# Altium schematic symbol library Converter_DCDC.SchLib: 658 symbols (part 1 of 7)
Pins are listed as number, name and electrical type; pins without a type are passive.

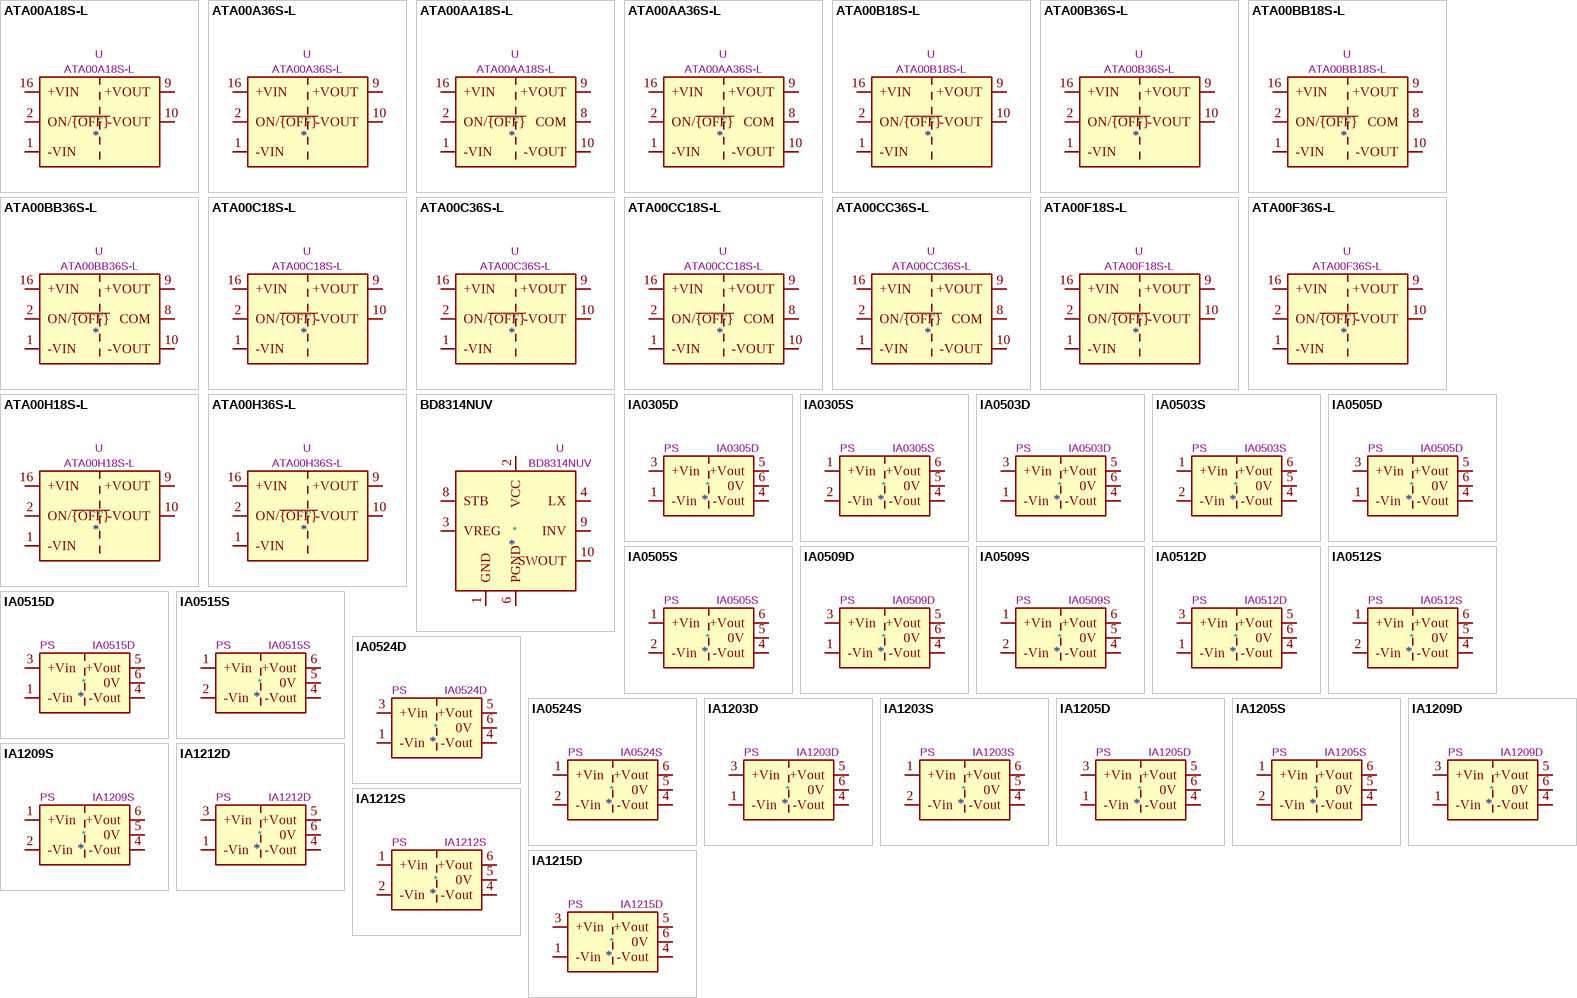
[diagram p0: symbols ATA00A18S-L to IA1215D]

## ATA00A18S-L
designator *  value ATA00A18S-L  Reference: U
ki_keywords: DC/DC converter single; ki_description: Artesyn 3W Isolated DC/DC Converter Module, 5V Output Voltage, 9-36V Input Voltage; ki_fp_filters: *Artesyn*ATA*SMD*; Footprint: Converter_DCDC:Converter_DCDC_Artesyn_ATA_SMD; Datasheet: https://www.artesyn.com/power/assets/ata_series_ds_01apr2015_79c25814fd.pdf
pins: 1 -VIN, 2 ON/~{{OFF}}, 7 NC hidden, 8 NC hidden, 9 +VOUT, 10 -VOUT, 16 +VIN

## ATA00A36S-L
designator *  value ATA00A36S-L  Reference: U
ki_keywords: DC/DC converter single; ki_description: Artesyn 3W Isolated DC/DC Converter Module, 5V Output Voltage, 18-75V Input Voltage; ki_fp_filters: *Artesyn*ATA*SMD*; Footprint: Converter_DCDC:Converter_DCDC_Artesyn_ATA_SMD; Datasheet: https://www.artesyn.com/power/assets/ata_series_ds_01apr2015_79c25814fd.pdf
pins: 1 -VIN, 2 ON/~{{OFF}}, 7 NC hidden, 8 NC hidden, 9 +VOUT, 10 -VOUT, 16 +VIN

## ATA00AA18S-L
designator *  value ATA00AA18S-L  Reference: U
ki_keywords: DC/DC converter dual; ki_description: Artesyn 3W Isolated DC/DC Converter Module, ±5V Output Voltage, 9-36V Input Voltage; ki_fp_filters: *Artesyn*ATA*SMD*; Footprint: Converter_DCDC:Converter_DCDC_Artesyn_ATA_SMD; Datasheet: https://www.artesyn.com/power/assets/ata_series_ds_01apr2015_79c25814fd.pdf
pins: 1 -VIN, 2 ON/~{{OFF}}, 7 NC hidden, 8 COM, 9 +VOUT, 10 -VOUT, 16 +VIN

## ATA00AA36S-L
designator *  value ATA00AA36S-L  Reference: U
ki_keywords: DC/DC converter dual; ki_description: Artesyn 3W Isolated DC/DC Converter Module, ±5V Output Voltage, 18-75V Input Voltage; ki_fp_filters: *Artesyn*ATA*SMD*; Footprint: Converter_DCDC:Converter_DCDC_Artesyn_ATA_SMD; Datasheet: https://www.artesyn.com/power/assets/ata_series_ds_01apr2015_79c25814fd.pdf
pins: 1 -VIN, 2 ON/~{{OFF}}, 7 NC hidden, 8 COM, 9 +VOUT, 10 -VOUT, 16 +VIN

## ATA00B18S-L
designator *  value ATA00B18S-L  Reference: U
ki_keywords: DC/DC converter single; ki_description: Artesyn 3W Isolated DC/DC Converter Module, 12V Output Voltage, 9-36V Input Voltage; ki_fp_filters: *Artesyn*ATA*SMD*; Footprint: Converter_DCDC:Converter_DCDC_Artesyn_ATA_SMD; Datasheet: https://www.artesyn.com/power/assets/ata_series_ds_01apr2015_79c25814fd.pdf
pins: 1 -VIN, 2 ON/~{{OFF}}, 7 NC hidden, 8 NC hidden, 9 +VOUT, 10 -VOUT, 16 +VIN

## ATA00B36S-L
designator *  value ATA00B36S-L  Reference: U
ki_keywords: DC/DC converter single; ki_description: Artesyn 3W Isolated DC/DC Converter Module, 12V Output Voltage, 18-75V Input Voltage; ki_fp_filters: *Artesyn*ATA*SMD*; Footprint: Converter_DCDC:Converter_DCDC_Artesyn_ATA_SMD; Datasheet: https://www.artesyn.com/power/assets/ata_series_ds_01apr2015_79c25814fd.pdf
pins: 1 -VIN, 2 ON/~{{OFF}}, 7 NC hidden, 8 NC hidden, 9 +VOUT, 10 -VOUT, 16 +VIN

## ATA00BB18S-L
designator *  value ATA00BB18S-L  Reference: U
ki_keywords: DC/DC converter dual; ki_description: Artesyn 3W Isolated DC/DC Converter Module, ±12V Output Voltage, 9-36V Input Voltage; ki_fp_filters: *Artesyn*ATA*SMD*; Footprint: Converter_DCDC:Converter_DCDC_Artesyn_ATA_SMD; Datasheet: https://www.artesyn.com/power/assets/ata_series_ds_01apr2015_79c25814fd.pdf
pins: 1 -VIN, 2 ON/~{{OFF}}, 7 NC hidden, 8 COM, 9 +VOUT, 10 -VOUT, 16 +VIN

## ATA00BB36S-L
designator *  value ATA00BB36S-L  Reference: U
ki_keywords: DC/DC converter dual; ki_description: Artesyn 3W Isolated DC/DC Converter Module, ±12V Output Voltage, 18-75V Input Voltage; ki_fp_filters: *Artesyn*ATA*SMD*; Footprint: Converter_DCDC:Converter_DCDC_Artesyn_ATA_SMD; Datasheet: https://www.artesyn.com/power/assets/ata_series_ds_01apr2015_79c25814fd.pdf
pins: 1 -VIN, 2 ON/~{{OFF}}, 7 NC hidden, 8 COM, 9 +VOUT, 10 -VOUT, 16 +VIN

## ATA00C18S-L
designator *  value ATA00C18S-L  Reference: U
ki_keywords: DC/DC converter single; ki_description: Artesyn 3W Isolated DC/DC Converter Module, 15V Output Voltage, 9-36V Input Voltage; ki_fp_filters: *Artesyn*ATA*SMD*; Footprint: Converter_DCDC:Converter_DCDC_Artesyn_ATA_SMD; Datasheet: https://www.artesyn.com/power/assets/ata_series_ds_01apr2015_79c25814fd.pdf
pins: 1 -VIN, 2 ON/~{{OFF}}, 7 NC hidden, 8 NC hidden, 9 +VOUT, 10 -VOUT, 16 +VIN

## ATA00C36S-L
designator *  value ATA00C36S-L  Reference: U
ki_keywords: DC/DC converter single; ki_description: Artesyn 3W Isolated DC/DC Converter Module, 15V Output Voltage, 18-75V Input Voltage; ki_fp_filters: *Artesyn*ATA*SMD*; Footprint: Converter_DCDC:Converter_DCDC_Artesyn_ATA_SMD; Datasheet: https://www.artesyn.com/power/assets/ata_series_ds_01apr2015_79c25814fd.pdf
pins: 1 -VIN, 2 ON/~{{OFF}}, 7 NC hidden, 8 NC hidden, 9 +VOUT, 10 -VOUT, 16 +VIN

## ATA00CC18S-L
designator *  value ATA00CC18S-L  Reference: U
ki_keywords: DC/DC converter dual; ki_description: Artesyn 3W Isolated DC/DC Converter Module, ±15V Output Voltage, 9-36V Input Voltage; ki_fp_filters: *Artesyn*ATA*SMD*; Footprint: Converter_DCDC:Converter_DCDC_Artesyn_ATA_SMD; Datasheet: https://www.artesyn.com/power/assets/ata_series_ds_01apr2015_79c25814fd.pdf
pins: 1 -VIN, 2 ON/~{{OFF}}, 7 NC hidden, 8 COM, 9 +VOUT, 10 -VOUT, 16 +VIN

## ATA00CC36S-L
designator *  value ATA00CC36S-L  Reference: U
ki_keywords: DC/DC converter dual; ki_description: Artesyn 3W Isolated DC/DC Converter Module, ±15V Output Voltage, 18-75V Input Voltage; ki_fp_filters: *Artesyn*ATA*SMD*; Footprint: Converter_DCDC:Converter_DCDC_Artesyn_ATA_SMD; Datasheet: https://www.artesyn.com/power/assets/ata_series_ds_01apr2015_79c25814fd.pdf
pins: 1 -VIN, 2 ON/~{{OFF}}, 7 NC hidden, 8 COM, 9 +VOUT, 10 -VOUT, 16 +VIN

## ATA00F18S-L
designator *  value ATA00F18S-L  Reference: U
ki_keywords: DC/DC converter single; ki_description: Artesyn 2W Isolated DC/DC Converter Module, 3.3V Output Voltage, 9-36V Input Voltage; ki_fp_filters: *Artesyn*ATA*SMD*; Footprint: Converter_DCDC:Converter_DCDC_Artesyn_ATA_SMD; Datasheet: https://www.artesyn.com/power/assets/ata_series_ds_01apr2015_79c25814fd.pdf
pins: 1 -VIN, 2 ON/~{{OFF}}, 7 NC hidden, 8 NC hidden, 9 +VOUT, 10 -VOUT, 16 +VIN

## ATA00F36S-L
designator *  value ATA00F36S-L  Reference: U
ki_keywords: DC/DC converter single; ki_description: Artesyn 2W Isolated DC/DC Converter Module, 3.3V Output Voltage, 18-75V Input Voltage; ki_fp_filters: *Artesyn*ATA*SMD*; Footprint: Converter_DCDC:Converter_DCDC_Artesyn_ATA_SMD; Datasheet: https://www.artesyn.com/power/assets/ata_series_ds_01apr2015_79c25814fd.pdf
pins: 1 -VIN, 2 ON/~{{OFF}}, 7 NC hidden, 8 NC hidden, 9 +VOUT, 10 -VOUT, 16 +VIN

## ATA00H18S-L
designator *  value ATA00H18S-L  Reference: U
ki_keywords: DC/DC converter single; ki_description: Artesyn 3W Isolated DC/DC Converter Module, 24V Output Voltage, 9-36V Input Voltage; ki_fp_filters: *Artesyn*ATA*SMD*; Footprint: Converter_DCDC:Converter_DCDC_Artesyn_ATA_SMD; Datasheet: https://www.artesyn.com/power/assets/ata_series_ds_01apr2015_79c25814fd.pdf
pins: 1 -VIN, 2 ON/~{{OFF}}, 7 NC hidden, 8 NC hidden, 9 +VOUT, 10 -VOUT, 16 +VIN

## ATA00H36S-L
designator *  value ATA00H36S-L  Reference: U
ki_keywords: DC/DC converter single; ki_description: Artesyn 3W Isolated DC/DC Converter Module, 24V Output Voltage, 18-75V Input Voltage; ki_fp_filters: *Artesyn*ATA*SMD*; Footprint: Converter_DCDC:Converter_DCDC_Artesyn_ATA_SMD; Datasheet: https://www.artesyn.com/power/assets/ata_series_ds_01apr2015_79c25814fd.pdf
pins: 1 -VIN, 2 ON/~{{OFF}}, 7 NC hidden, 8 NC hidden, 9 +VOUT, 10 -VOUT, 16 +VIN

## BD8314NUV
designator *  value BD8314NUV  Reference: U
ki_keywords: DCDC converter; ki_description: 3.0V to 12V, Integrated 2.5A MOSFET 1ch Boost Converter, VSON-10; ki_fp_filters: VSON*1EP*3x3mm*P0.5mm*; Footprint: Package_SON:VSON-10-1EP_3x3mm_P0.5mm_EP1.2x2mm; Datasheet: http://rohmfs.rohm.com/en/products/databook/datasheet/ic/power/switching_regulator/bd8314nuv-e.pdf
pins: 1 GND, 2 VCC, 3 VREG, 4 LX, 5 LX hidden, 6 PGND, 7 PGND hidden, 8 STB, 9 INV, 10 SWOUT, 11 PGND hidden

## IA0305D
designator *  value IA0305D  Reference: PS
ki_keywords: XP_POWER DC/DC isolated Converter module; ki_description: XP Power 1W, 1000 VDC Isolated DC/DC Converter Module, Dual Output Voltage ±5V, ±100mA, 3.3V Input Voltage, DIP; ki_fp_filters: *XP?POWER?IAxxxxD*; Footprint: Converter_DCDC:Converter_DCDC_XP_POWER-IAxxxxD_THT; Datasheet: https://www.xppower.com/pdfs/SF_IA.pdf
pins: 1 -Vin, 2 NC hidden, 3 +Vin, 4 -Vout, 5 +Vout, 6 0V

## IA0305S
designator *  value IA0305S  Reference: PS
ki_keywords: XP_POWER DC/DC isolated Converter module; ki_description: XP Power 1W, 1000 VDC Isolated DC/DC Converter Module, Dual Output Voltage ±5V, ±100mA, 3.3V Input Voltage, SIP; ki_fp_filters: *XP?POWER?IAxxxxS*; Footprint: Converter_DCDC:Converter_DCDC_XP_POWER-IAxxxxS_THT; Datasheet: https://www.xppower.com/pdfs/SF_IA.pdf
pins: 1 +Vin, 2 -Vin, 4 -Vout, 5 0V, 6 +Vout

## IA0503D
designator *  value IA0503D  Reference: PS
ki_keywords: XP_POWER DC/DC isolated Converter module; ki_description: XP Power 1W, 1000 VDC Isolated DC/DC Converter Module, Dual Output Voltage ±3.3V, ±151mA, 5V Input Voltage, DIP; ki_fp_filters: *XP?POWER?IAxxxxD*; Footprint: Converter_DCDC:Converter_DCDC_XP_POWER-IAxxxxD_THT; Datasheet: https://www.xppower.com/pdfs/SF_IA.pdf
pins: 1 -Vin, 2 NC hidden, 3 +Vin, 4 -Vout, 5 +Vout, 6 0V

## IA0503S
designator *  value IA0503S  Reference: PS
ki_keywords: XP_POWER DC/DC isolated Converter module; ki_description: XP Power 1W, 1000 VDC Isolated DC/DC Converter Module, Dual Output Voltage ±3.3V, ±151mA, 5V Input Voltage, SIP; ki_fp_filters: *XP?POWER?IAxxxxS*; Footprint: Converter_DCDC:Converter_DCDC_XP_POWER-IAxxxxS_THT; Datasheet: https://www.xppower.com/pdfs/SF_IA.pdf
pins: 1 +Vin, 2 -Vin, 4 -Vout, 5 0V, 6 +Vout

## IA0505D
designator *  value IA0505D  Reference: PS
ki_keywords: XP_POWER DC/DC isolated Converter module; ki_description: XP Power 1W, 1000 VDC Isolated DC/DC Converter Module, Dual Output Voltage ±5V, ±100mA, 5V Input Voltage, DIP; ki_fp_filters: *XP?POWER?IAxxxxD*; Footprint: Converter_DCDC:Converter_DCDC_XP_POWER-IAxxxxD_THT; Datasheet: https://www.xppower.com/pdfs/SF_IA.pdf
pins: 1 -Vin, 2 NC hidden, 3 +Vin, 4 -Vout, 5 +Vout, 6 0V

## IA0505S
designator *  value IA0505S  Reference: PS
ki_keywords: XP_POWER DC/DC isolated Converter module; ki_description: XP Power 1W, 1000 VDC Isolated DC/DC Converter Module, Dual Output Voltage ±5V, ±100mA, 5V Input Voltage, SIP; ki_fp_filters: *XP?POWER?IAxxxxS*; Footprint: Converter_DCDC:Converter_DCDC_XP_POWER-IAxxxxS_THT; Datasheet: https://www.xppower.com/pdfs/SF_IA.pdf
pins: 1 +Vin, 2 -Vin, 4 -Vout, 5 0V, 6 +Vout

## IA0509D
designator *  value IA0509D  Reference: PS
ki_keywords: XP_POWER DC/DC isolated Converter module; ki_description: XP Power 1W, 1000 VDC Isolated DC/DC Converter Module, Dual Output Voltage ±9V, ±55mA, 5V Input Voltage, DIP; ki_fp_filters: *XP?POWER?IAxxxxD*; Footprint: Converter_DCDC:Converter_DCDC_XP_POWER-IAxxxxD_THT; Datasheet: https://www.xppower.com/pdfs/SF_IA.pdf
pins: 1 -Vin, 2 NC hidden, 3 +Vin, 4 -Vout, 5 +Vout, 6 0V

## IA0509S
designator *  value IA0509S  Reference: PS
ki_keywords: XP_POWER DC/DC isolated Converter module; ki_description: XP Power 1W, 1000 VDC Isolated DC/DC Converter Module, Dual Output Voltage ±9V, ±55mA, 5V Input Voltage, SIP; ki_fp_filters: *XP?POWER?IAxxxxS*; Footprint: Converter_DCDC:Converter_DCDC_XP_POWER-IAxxxxS_THT; Datasheet: https://www.xppower.com/pdfs/SF_IA.pdf
pins: 1 +Vin, 2 -Vin, 4 -Vout, 5 0V, 6 +Vout

## IA0512D
designator *  value IA0512D  Reference: PS
ki_keywords: XP_POWER DC/DC isolated Converter module; ki_description: XP Power 1W, 1000 VDC Isolated DC/DC Converter Module, Dual Output Voltage ±12V, ±42mA, 5V Input Voltage, DIP; ki_fp_filters: *XP?POWER?IAxxxxD*; Footprint: Converter_DCDC:Converter_DCDC_XP_POWER-IAxxxxD_THT; Datasheet: https://www.xppower.com/pdfs/SF_IA.pdf
pins: 1 -Vin, 2 NC hidden, 3 +Vin, 4 -Vout, 5 +Vout, 6 0V

## IA0512S
designator *  value IA0512S  Reference: PS
ki_keywords: XP_POWER DC/DC isolated Converter module; ki_description: XP Power 1W, 1000 VDC Isolated DC/DC Converter Module, Dual Output Voltage ±12V, ±42mA, 5V Input Voltage, SIP; ki_fp_filters: *XP?POWER?IAxxxxS*; Footprint: Converter_DCDC:Converter_DCDC_XP_POWER-IAxxxxS_THT; Datasheet: https://www.xppower.com/pdfs/SF_IA.pdf
pins: 1 +Vin, 2 -Vin, 4 -Vout, 5 0V, 6 +Vout

## IA0515D
designator *  value IA0515D  Reference: PS
ki_keywords: XP_POWER DC/DC isolated Converter module; ki_description: XP Power 1W, 1000 VDC Isolated DC/DC Converter Module, Dual Output Voltage ±15V, ±33mA, 5V Input Voltage, DIP; ki_fp_filters: *XP?POWER?IAxxxxD*; Footprint: Converter_DCDC:Converter_DCDC_XP_POWER-IAxxxxD_THT; Datasheet: https://www.xppower.com/pdfs/SF_IA.pdf
pins: 1 -Vin, 2 NC hidden, 3 +Vin, 4 -Vout, 5 +Vout, 6 0V

## IA0515S
designator *  value IA0515S  Reference: PS
ki_keywords: XP_POWER DC/DC isolated Converter module; ki_description: XP Power 1W, 1000 VDC Isolated DC/DC Converter Module, Dual Output Voltage ±15V, ±33mA, 5V Input Voltage, SIP; ki_fp_filters: *XP?POWER?IAxxxxS*; Footprint: Converter_DCDC:Converter_DCDC_XP_POWER-IAxxxxS_THT; Datasheet: https://www.xppower.com/pdfs/SF_IA.pdf
pins: 1 +Vin, 2 -Vin, 4 -Vout, 5 0V, 6 +Vout

## IA0524D
designator *  value IA0524D  Reference: PS
ki_keywords: XP_POWER DC/DC isolated Converter module; ki_description: XP Power 1W, 1000 VDC Isolated DC/DC Converter Module, Dual Output Voltage ±24V, ±21mA, 5V Input Voltage, DIP; ki_fp_filters: *XP?POWER?IAxxxxD*; Footprint: Converter_DCDC:Converter_DCDC_XP_POWER-IAxxxxD_THT; Datasheet: https://www.xppower.com/pdfs/SF_IA.pdf
pins: 1 -Vin, 2 NC hidden, 3 +Vin, 4 -Vout, 5 +Vout, 6 0V

## IA0524S
designator *  value IA0524S  Reference: PS
ki_keywords: XP_POWER DC/DC isolated Converter module; ki_description: XP Power 1W, 1000 VDC Isolated DC/DC Converter Module, Dual Output Voltage ±24V, ±21mA, 5V Input Voltage, SIP; ki_fp_filters: *XP?POWER?IAxxxxS*; Footprint: Converter_DCDC:Converter_DCDC_XP_POWER-IAxxxxS_THT; Datasheet: https://www.xppower.com/pdfs/SF_IA.pdf
pins: 1 +Vin, 2 -Vin, 4 -Vout, 5 0V, 6 +Vout

## IA1203D
designator *  value IA1203D  Reference: PS
ki_keywords: XP_POWER DC/DC isolated Converter module; ki_description: XP Power 1W, 1000 VDC Isolated DC/DC Converter Module, Dual Output Voltage ±3.3V, ±151mA, 12V Input Voltage, DIP; ki_fp_filters: *XP?POWER?IAxxxxD*; Footprint: Converter_DCDC:Converter_DCDC_XP_POWER-IAxxxxD_THT; Datasheet: https://www.xppower.com/pdfs/SF_IA.pdf
pins: 1 -Vin, 2 NC hidden, 3 +Vin, 4 -Vout, 5 +Vout, 6 0V

## IA1203S
designator *  value IA1203S  Reference: PS
ki_keywords: XP_POWER DC/DC isolated Converter module; ki_description: XP Power 1W, 1000 VDC Isolated DC/DC Converter Module, Dual Output Voltage ±3.3V, ±151mA, 12V Input Voltage, SIP; ki_fp_filters: *XP?POWER?IAxxxxS*; Footprint: Converter_DCDC:Converter_DCDC_XP_POWER-IAxxxxS_THT; Datasheet: https://www.xppower.com/pdfs/SF_IA.pdf
pins: 1 +Vin, 2 -Vin, 4 -Vout, 5 0V, 6 +Vout

## IA1205D
designator *  value IA1205D  Reference: PS
ki_keywords: XP_POWER DC/DC isolated Converter module; ki_description: XP Power 1W, 1000 VDC Isolated DC/DC Converter Module, Dual Output Voltage ±5V, ±100mA, 12V Input Voltage, DIP; ki_fp_filters: *XP?POWER?IAxxxxD*; Footprint: Converter_DCDC:Converter_DCDC_XP_POWER-IAxxxxD_THT; Datasheet: https://www.xppower.com/pdfs/SF_IA.pdf
pins: 1 -Vin, 2 NC hidden, 3 +Vin, 4 -Vout, 5 +Vout, 6 0V

## IA1205S
designator *  value IA1205S  Reference: PS
ki_keywords: XP_POWER DC/DC isolated Converter module; ki_description: XP Power 1W, 1000 VDC Isolated DC/DC Converter Module, Dual Output Voltage ±5V, ±100mA, 12V Input Voltage, SIP; ki_fp_filters: *XP?POWER?IAxxxxS*; Footprint: Converter_DCDC:Converter_DCDC_XP_POWER-IAxxxxS_THT; Datasheet: https://www.xppower.com/pdfs/SF_IA.pdf
pins: 1 +Vin, 2 -Vin, 4 -Vout, 5 0V, 6 +Vout

## IA1209D
designator *  value IA1209D  Reference: PS
ki_keywords: XP_POWER DC/DC isolated Converter module; ki_description: XP Power 1W, 1000 VDC Isolated DC/DC Converter Module, Dual Output Voltage ±9V, ±55mA, 12V Input Voltage, DIP; ki_fp_filters: *XP?POWER?IAxxxxD*; Footprint: Converter_DCDC:Converter_DCDC_XP_POWER-IAxxxxD_THT; Datasheet: https://www.xppower.com/pdfs/SF_IA.pdf
pins: 1 -Vin, 2 NC hidden, 3 +Vin, 4 -Vout, 5 +Vout, 6 0V

## IA1209S
designator *  value IA1209S  Reference: PS
ki_keywords: XP_POWER DC/DC isolated Converter module; ki_description: XP Power 1W, 1000 VDC Isolated DC/DC Converter Module, Dual Output Voltage ±9V, ±55mA, 12V Input Voltage, SIP; ki_fp_filters: *XP?POWER?IAxxxxS*; Footprint: Converter_DCDC:Converter_DCDC_XP_POWER-IAxxxxS_THT; Datasheet: https://www.xppower.com/pdfs/SF_IA.pdf
pins: 1 +Vin, 2 -Vin, 4 -Vout, 5 0V, 6 +Vout

## IA1212D
designator *  value IA1212D  Reference: PS
ki_keywords: XP_POWER DC/DC isolated Converter module; ki_description: XP Power 1W, 1000 VDC Isolated DC/DC Converter Module, Dual Output Voltage ±12V, ±42mA, 12V Input Voltage, DIP; ki_fp_filters: *XP?POWER?IAxxxxD*; Footprint: Converter_DCDC:Converter_DCDC_XP_POWER-IAxxxxD_THT; Datasheet: https://www.xppower.com/pdfs/SF_IA.pdf
pins: 1 -Vin, 2 NC hidden, 3 +Vin, 4 -Vout, 5 +Vout, 6 0V

## IA1212S
designator *  value IA1212S  Reference: PS
ki_keywords: XP_POWER DC/DC isolated Converter module; ki_description: XP Power 1W, 1000 VDC Isolated DC/DC Converter Module, Dual Output Voltage ±12V, ±42mA, 12V Input Voltage, SIP; ki_fp_filters: *XP?POWER?IAxxxxS*; Footprint: Converter_DCDC:Converter_DCDC_XP_POWER-IAxxxxS_THT; Datasheet: https://www.xppower.com/pdfs/SF_IA.pdf
pins: 1 +Vin, 2 -Vin, 4 -Vout, 5 0V, 6 +Vout

## IA1215D
designator *  value IA1215D  Reference: PS
ki_keywords: XP_POWER DC/DC isolated Converter module; ki_description: XP Power 1W, 1000 VDC Isolated DC/DC Converter Module, Dual Output Voltage ±15V, ±33mA, 12V Input Voltage, DIP; ki_fp_filters: *XP?POWER?IAxxxxD*; Footprint: Converter_DCDC:Converter_DCDC_XP_POWER-IAxxxxD_THT; Datasheet: https://www.xppower.com/pdfs/SF_IA.pdf
pins: 1 -Vin, 2 NC hidden, 3 +Vin, 4 -Vout, 5 +Vout, 6 0V

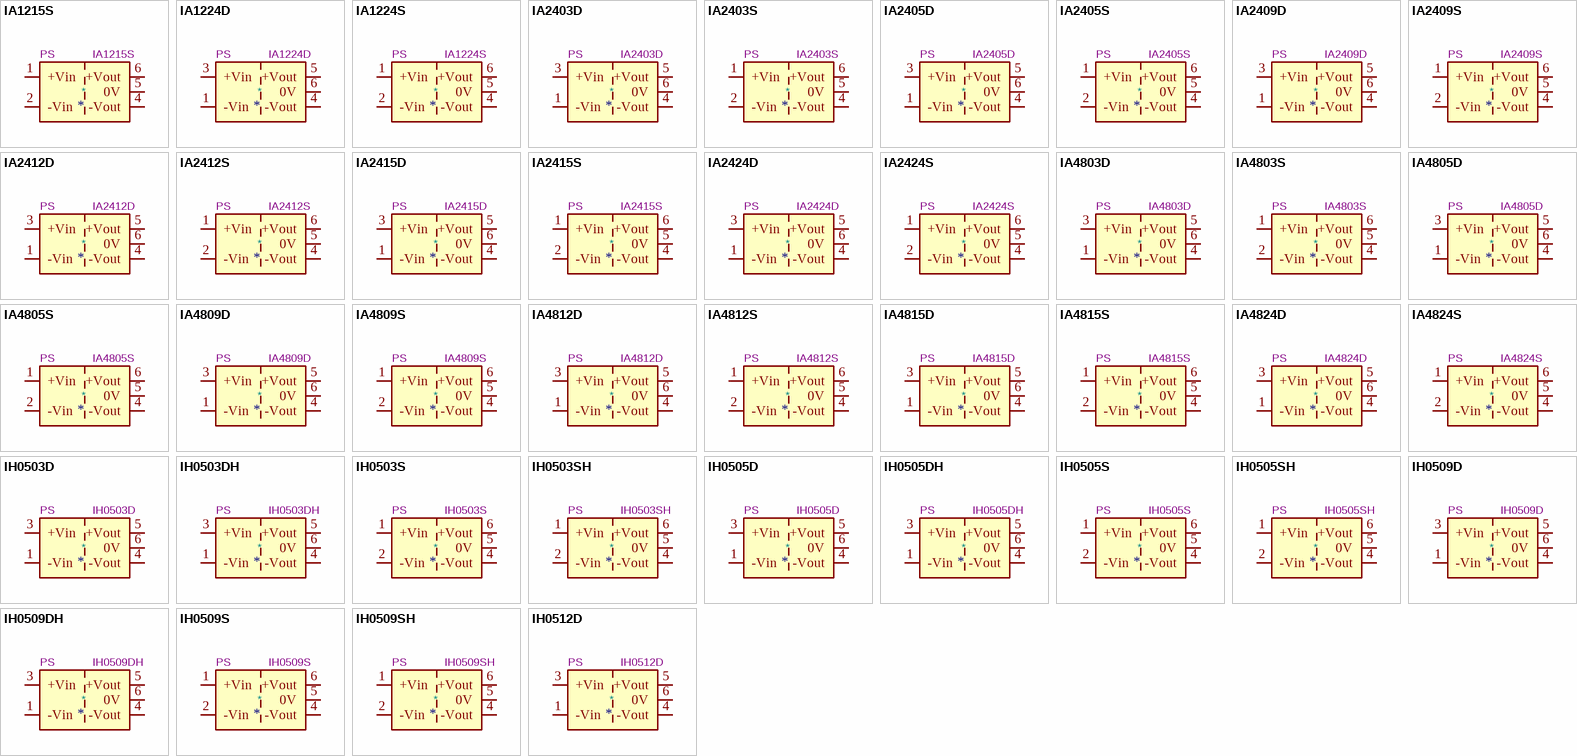
[diagram p1: symbols IA1215S to IH0512D]

## IA1215S
designator *  value IA1215S  Reference: PS
ki_keywords: XP_POWER DC/DC isolated Converter module; ki_description: XP Power 1W, 1000 VDC Isolated DC/DC Converter Module, Dual Output Voltage ±15V, ±33mA, 12V Input Voltage, SIP; ki_fp_filters: *XP?POWER?IAxxxxS*; Footprint: Converter_DCDC:Converter_DCDC_XP_POWER-IAxxxxS_THT; Datasheet: https://www.xppower.com/pdfs/SF_IA.pdf
pins: 1 +Vin, 2 -Vin, 4 -Vout, 5 0V, 6 +Vout

## IA1224D
designator *  value IA1224D  Reference: PS
ki_keywords: XP_POWER DC/DC isolated Converter module; ki_description: XP Power 1W, 1000 VDC Isolated DC/DC Converter Module, Dual Output Voltage ±24V, ±21mA, 12V Input Voltage, DIP; ki_fp_filters: *XP?POWER?IAxxxxD*; Footprint: Converter_DCDC:Converter_DCDC_XP_POWER-IAxxxxD_THT; Datasheet: https://www.xppower.com/pdfs/SF_IA.pdf
pins: 1 -Vin, 2 NC hidden, 3 +Vin, 4 -Vout, 5 +Vout, 6 0V

## IA1224S
designator *  value IA1224S  Reference: PS
ki_keywords: XP_POWER DC/DC isolated Converter module; ki_description: XP Power 1W, 1000 VDC Isolated DC/DC Converter Module, Dual Output Voltage ±24V, ±21mA, 12V Input Voltage, SIP; ki_fp_filters: *XP?POWER?IAxxxxS*; Footprint: Converter_DCDC:Converter_DCDC_XP_POWER-IAxxxxS_THT; Datasheet: https://www.xppower.com/pdfs/SF_IA.pdf
pins: 1 +Vin, 2 -Vin, 4 -Vout, 5 0V, 6 +Vout

## IA2403D
designator *  value IA2403D  Reference: PS
ki_keywords: XP_POWER DC/DC isolated Converter module; ki_description: XP Power 1W, 1000 VDC Isolated DC/DC Converter Module, Dual Output Voltage ±3.3V, ±151mA, 24V Input Voltage, DIP; ki_fp_filters: *XP?POWER?IAxxxxD*; Footprint: Converter_DCDC:Converter_DCDC_XP_POWER-IAxxxxD_THT; Datasheet: https://www.xppower.com/pdfs/SF_IA.pdf
pins: 1 -Vin, 2 NC hidden, 3 +Vin, 4 -Vout, 5 +Vout, 6 0V

## IA2403S
designator *  value IA2403S  Reference: PS
ki_keywords: XP_POWER DC/DC isolated Converter module; ki_description: XP Power 1W, 1000 VDC Isolated DC/DC Converter Module, Dual Output Voltage ±3.3V, ±151mA, 24V Input Voltage, SIP; ki_fp_filters: *XP?POWER?IAxxxxS*; Footprint: Converter_DCDC:Converter_DCDC_XP_POWER-IAxxxxS_THT; Datasheet: https://www.xppower.com/pdfs/SF_IA.pdf
pins: 1 +Vin, 2 -Vin, 4 -Vout, 5 0V, 6 +Vout

## IA2405D
designator *  value IA2405D  Reference: PS
ki_keywords: XP_POWER DC/DC isolated Converter module; ki_description: XP Power 1W, 1000 VDC Isolated DC/DC Converter Module, Dual Output Voltage ±5V, ±100mA, 24V Input Voltage, DIP; ki_fp_filters: *XP?POWER?IAxxxxD*; Footprint: Converter_DCDC:Converter_DCDC_XP_POWER-IAxxxxD_THT; Datasheet: https://www.xppower.com/pdfs/SF_IA.pdf
pins: 1 -Vin, 2 NC hidden, 3 +Vin, 4 -Vout, 5 +Vout, 6 0V

## IA2405S
designator *  value IA2405S  Reference: PS
ki_keywords: XP_POWER DC/DC isolated Converter module; ki_description: XP Power 1W, 1000 VDC Isolated DC/DC Converter Module, Dual Output Voltage ±5V, ±100mA, 24V Input Voltage, SIP; ki_fp_filters: *XP?POWER?IAxxxxS*; Footprint: Converter_DCDC:Converter_DCDC_XP_POWER-IAxxxxS_THT; Datasheet: https://www.xppower.com/pdfs/SF_IA.pdf
pins: 1 +Vin, 2 -Vin, 4 -Vout, 5 0V, 6 +Vout

## IA2409D
designator *  value IA2409D  Reference: PS
ki_keywords: XP_POWER DC/DC isolated Converter module; ki_description: XP Power 1W, 1000 VDC Isolated DC/DC Converter Module, Dual Output Voltage ±9V, ±55mA, 24V Input Voltage, DIP; ki_fp_filters: *XP?POWER?IAxxxxD*; Footprint: Converter_DCDC:Converter_DCDC_XP_POWER-IAxxxxD_THT; Datasheet: https://www.xppower.com/pdfs/SF_IA.pdf
pins: 1 -Vin, 2 NC hidden, 3 +Vin, 4 -Vout, 5 +Vout, 6 0V

## IA2409S
designator *  value IA2409S  Reference: PS
ki_keywords: XP_POWER DC/DC isolated Converter module; ki_description: XP Power 1W, 1000 VDC Isolated DC/DC Converter Module, Dual Output Voltage ±9V, ±55mA, 24V Input Voltage, SIP; ki_fp_filters: *XP?POWER?IAxxxxS*; Footprint: Converter_DCDC:Converter_DCDC_XP_POWER-IAxxxxS_THT; Datasheet: https://www.xppower.com/pdfs/SF_IA.pdf
pins: 1 +Vin, 2 -Vin, 4 -Vout, 5 0V, 6 +Vout

## IA2412D
designator *  value IA2412D  Reference: PS
ki_keywords: XP_POWER DC/DC isolated Converter module; ki_description: XP Power 1W, 1000 VDC Isolated DC/DC Converter Module, Dual Output Voltage ±12V, ±42mA, 24V Input Voltage, DIP; ki_fp_filters: *XP?POWER?IAxxxxD*; Footprint: Converter_DCDC:Converter_DCDC_XP_POWER-IAxxxxD_THT; Datasheet: https://www.xppower.com/pdfs/SF_IA.pdf
pins: 1 -Vin, 2 NC hidden, 3 +Vin, 4 -Vout, 5 +Vout, 6 0V

## IA2412S
designator *  value IA2412S  Reference: PS
ki_keywords: XP_POWER DC/DC isolated Converter module; ki_description: XP Power 1W, 1000 VDC Isolated DC/DC Converter Module, Dual Output Voltage ±12V, ±42mA, 24V Input Voltage, SIP; ki_fp_filters: *XP?POWER?IAxxxxS*; Footprint: Converter_DCDC:Converter_DCDC_XP_POWER-IAxxxxS_THT; Datasheet: https://www.xppower.com/pdfs/SF_IA.pdf
pins: 1 +Vin, 2 -Vin, 4 -Vout, 5 0V, 6 +Vout

## IA2415D
designator *  value IA2415D  Reference: PS
ki_keywords: XP_POWER DC/DC isolated Converter module; ki_description: XP Power 1W, 1000 VDC Isolated DC/DC Converter Module, Dual Output Voltage ±15V, ±33mA, 24V Input Voltage, DIP; ki_fp_filters: *XP?POWER?IAxxxxD*; Footprint: Converter_DCDC:Converter_DCDC_XP_POWER-IAxxxxD_THT; Datasheet: https://www.xppower.com/pdfs/SF_IA.pdf
pins: 1 -Vin, 2 NC hidden, 3 +Vin, 4 -Vout, 5 +Vout, 6 0V

## IA2415S
designator *  value IA2415S  Reference: PS
ki_keywords: XP_POWER DC/DC isolated Converter module; ki_description: XP Power 1W, 1000 VDC Isolated DC/DC Converter Module, Dual Output Voltage ±15V, ±33mA, 24V Input Voltage, SIP; ki_fp_filters: *XP?POWER?IAxxxxS*; Footprint: Converter_DCDC:Converter_DCDC_XP_POWER-IAxxxxS_THT; Datasheet: https://www.xppower.com/pdfs/SF_IA.pdf
pins: 1 +Vin, 2 -Vin, 4 -Vout, 5 0V, 6 +Vout

## IA2424D
designator *  value IA2424D  Reference: PS
ki_keywords: XP_POWER DC/DC isolated Converter module; ki_description: XP Power 1W, 1000 VDC Isolated DC/DC Converter Module, Dual Output Voltage ±24V, ±21mA, 24V Input Voltage, DIP; ki_fp_filters: *XP?POWER?IAxxxxD*; Footprint: Converter_DCDC:Converter_DCDC_XP_POWER-IAxxxxD_THT; Datasheet: https://www.xppower.com/pdfs/SF_IA.pdf
pins: 1 -Vin, 2 NC hidden, 3 +Vin, 4 -Vout, 5 +Vout, 6 0V

## IA2424S
designator *  value IA2424S  Reference: PS
ki_keywords: XP_POWER DC/DC isolated Converter module; ki_description: XP Power 1W, 1000 VDC Isolated DC/DC Converter Module, Dual Output Voltage ±24V, ±21mA, 24V Input Voltage, SIP; ki_fp_filters: *XP?POWER?IAxxxxS*; Footprint: Converter_DCDC:Converter_DCDC_XP_POWER-IAxxxxS_THT; Datasheet: https://www.xppower.com/pdfs/SF_IA.pdf
pins: 1 +Vin, 2 -Vin, 4 -Vout, 5 0V, 6 +Vout

## IA4803D
designator *  value IA4803D  Reference: PS
ki_keywords: XP_POWER DC/DC isolated Converter module; ki_description: XP Power 1W, 1000 VDC Isolated DC/DC Converter Module, Dual Output Voltage ±3.3V, ±151mA, 48V Input Voltage, DIP; ki_fp_filters: *XP?POWER?IA48xxD*; Footprint: Converter_DCDC:Converter_DCDC_XP_POWER-IA48xxD_THT; Datasheet: https://www.xppower.com/pdfs/SF_IA.pdf
pins: 1 -Vin, 2 NC hidden, 3 +Vin, 4 -Vout, 5 +Vout, 6 0V

## IA4803S
designator *  value IA4803S  Reference: PS
ki_keywords: XP_POWER DC/DC isolated Converter module; ki_description: XP Power 1W, 1000 VDC Isolated DC/DC Converter Module, Dual Output Voltage ±3.3V, ±151mA, 48V Input Voltage, SIP; ki_fp_filters: *XP?POWER?IA48xxS*; Footprint: Converter_DCDC:Converter_DCDC_XP_POWER-IA48xxS_THT; Datasheet: https://www.xppower.com/pdfs/SF_IA.pdf
pins: 1 +Vin, 2 -Vin, 4 -Vout, 5 0V, 6 +Vout

## IA4805D
designator *  value IA4805D  Reference: PS
ki_keywords: XP_POWER DC/DC isolated Converter module; ki_description: XP Power 1W, 1000 VDC Isolated DC/DC Converter Module, Dual Output Voltage ±5V, ±100mA, 48V Input Voltage, DIP; ki_fp_filters: *XP?POWER?IA48xxD*; Footprint: Converter_DCDC:Converter_DCDC_XP_POWER-IA48xxD_THT; Datasheet: https://www.xppower.com/pdfs/SF_IA.pdf
pins: 1 -Vin, 2 NC hidden, 3 +Vin, 4 -Vout, 5 +Vout, 6 0V

## IA4805S
designator *  value IA4805S  Reference: PS
ki_keywords: XP_POWER DC/DC isolated Converter module; ki_description: XP Power 1W, 1000 VDC Isolated DC/DC Converter Module, Dual Output Voltage ±5V, ±100mA, 48V Input Voltage, SIP; ki_fp_filters: *XP?POWER?IA48xxS*; Footprint: Converter_DCDC:Converter_DCDC_XP_POWER-IA48xxS_THT; Datasheet: https://www.xppower.com/pdfs/SF_IA.pdf
pins: 1 +Vin, 2 -Vin, 4 -Vout, 5 0V, 6 +Vout

## IA4809D
designator *  value IA4809D  Reference: PS
ki_keywords: XP_POWER DC/DC isolated Converter module; ki_description: XP Power 1W, 1000 VDC Isolated DC/DC Converter Module, Dual Output Voltage ±9V, ±55mA, 48V Input Voltage, DIP; ki_fp_filters: *XP?POWER?IA48xxD*; Footprint: Converter_DCDC:Converter_DCDC_XP_POWER-IA48xxD_THT; Datasheet: https://www.xppower.com/pdfs/SF_IA.pdf
pins: 1 -Vin, 2 NC hidden, 3 +Vin, 4 -Vout, 5 +Vout, 6 0V

## IA4809S
designator *  value IA4809S  Reference: PS
ki_keywords: XP_POWER DC/DC isolated Converter module; ki_description: XP Power 1W, 1000 VDC Isolated DC/DC Converter Module, Dual Output Voltage ±9V, ±55mA, 48V Input Voltage, SIP; ki_fp_filters: *XP?POWER?IA48xxS*; Footprint: Converter_DCDC:Converter_DCDC_XP_POWER-IA48xxS_THT; Datasheet: https://www.xppower.com/pdfs/SF_IA.pdf
pins: 1 +Vin, 2 -Vin, 4 -Vout, 5 0V, 6 +Vout

## IA4812D
designator *  value IA4812D  Reference: PS
ki_keywords: XP_POWER DC/DC isolated Converter module; ki_description: XP Power 1W, 1000 VDC Isolated DC/DC Converter Module, Dual Output Voltage ±12V, ±42mA, 48V Input Voltage, DIP; ki_fp_filters: *XP?POWER?IA48xxD*; Footprint: Converter_DCDC:Converter_DCDC_XP_POWER-IA48xxD_THT; Datasheet: https://www.xppower.com/pdfs/SF_IA.pdf
pins: 1 -Vin, 2 NC hidden, 3 +Vin, 4 -Vout, 5 +Vout, 6 0V

## IA4812S
designator *  value IA4812S  Reference: PS
ki_keywords: XP_POWER DC/DC isolated Converter module; ki_description: XP Power 1W, 1000 VDC Isolated DC/DC Converter Module, Dual Output Voltage ±12V, ±42mA, 48V Input Voltage, SIP; ki_fp_filters: *XP?POWER?IA48xxS*; Footprint: Converter_DCDC:Converter_DCDC_XP_POWER-IA48xxS_THT; Datasheet: https://www.xppower.com/pdfs/SF_IA.pdf
pins: 1 +Vin, 2 -Vin, 4 -Vout, 5 0V, 6 +Vout

## IA4815D
designator *  value IA4815D  Reference: PS
ki_keywords: XP_POWER DC/DC isolated Converter module; ki_description: XP Power 1W, 1000 VDC Isolated DC/DC Converter Module, Dual Output Voltage ±15V, ±33mA, 48V Input Voltage, DIP; ki_fp_filters: *XP?POWER?IA48xxD*; Footprint: Converter_DCDC:Converter_DCDC_XP_POWER-IA48xxD_THT; Datasheet: https://www.xppower.com/pdfs/SF_IA.pdf
pins: 1 -Vin, 2 NC hidden, 3 +Vin, 4 -Vout, 5 +Vout, 6 0V

## IA4815S
designator *  value IA4815S  Reference: PS
ki_keywords: XP_POWER DC/DC isolated Converter module; ki_description: XP Power 1W, 1000 VDC Isolated DC/DC Converter Module, Dual Output Voltage ±15V, ±33mA, 48V Input Voltage, SIP; ki_fp_filters: *XP?POWER?IA48xxS*; Footprint: Converter_DCDC:Converter_DCDC_XP_POWER-IA48xxS_THT; Datasheet: https://www.xppower.com/pdfs/SF_IA.pdf
pins: 1 +Vin, 2 -Vin, 4 -Vout, 5 0V, 6 +Vout

## IA4824D
designator *  value IA4824D  Reference: PS
ki_keywords: XP_POWER DC/DC isolated Converter module; ki_description: XP Power 1W, 1000 VDC Isolated DC/DC Converter Module, Dual Output Voltage ±24V, ±21mA, 48V Input Voltage, DIP; ki_fp_filters: *XP?POWER?IA48xxD*; Footprint: Converter_DCDC:Converter_DCDC_XP_POWER-IA48xxD_THT; Datasheet: https://www.xppower.com/pdfs/SF_IA.pdf
pins: 1 -Vin, 2 NC hidden, 3 +Vin, 4 -Vout, 5 +Vout, 6 0V

## IA4824S
designator *  value IA4824S  Reference: PS
ki_keywords: XP_POWER DC/DC isolated Converter module; ki_description: XP Power 1W, 1000 VDC Isolated DC/DC Converter Module, Dual Output Voltage ±24V, ±21mA, 48V Input Voltage, SIP; ki_fp_filters: *XP?POWER?IA48xxS*; Footprint: Converter_DCDC:Converter_DCDC_XP_POWER-IA48xxS_THT; Datasheet: https://www.xppower.com/pdfs/SF_IA.pdf
pins: 1 +Vin, 2 -Vin, 4 -Vout, 5 0V, 6 +Vout

## IH0503D
designator *  value IH0503D  Reference: PS
ki_keywords: XP_POWER DC/DC isolated Converter module; ki_description: XP Power 2W, 1000 VDC Isolated DC/DC Converter Module, Dual Output Voltage ±3.3V, ±200mA, 5V Input Voltage, DIP; ki_fp_filters: *XP?POWER?IHxxxxD*; Footprint: Converter_DCDC:Converter_DCDC_XP_POWER-IHxxxxD_THT; Datasheet: https://www.xppower.com/pdfs/SF_IH.pdf
pins: 1 -Vin, 2 NC hidden, 3 +Vin, 4 -Vout, 5 +Vout, 6 0V

## IH0503DH
designator *  value IH0503DH  Reference: PS
ki_keywords: XP_POWER DC/DC isolated Converter module; ki_description: XP Power 2W, 3000-6000 VDC Isolated DC/DC Converter Module, Dual Output Voltage ±3.3V, ±200mA, 5V Input Voltage, DIP; ki_fp_filters: *XP?POWER?IHxxxxDH*; Footprint: Converter_DCDC:Converter_DCDC_XP_POWER-IHxxxxDH_THT; Datasheet: https://www.xppower.com/pdfs/SF_IH.pdf
pins: 1 -Vin, 2 NC hidden, 3 +Vin, 4 -Vout, 5 +Vout, 6 0V

## IH0503S
designator *  value IH0503S  Reference: PS
ki_keywords: XP_POWER DC/DC isolated Converter module; ki_description: XP Power 2W, 1000 VDC Isolated DC/DC Converter Module, Dual Output Voltage ±3.3V, ±200mA, 5V Input Voltage, SIP; ki_fp_filters: *XP?POWER?IHxxxxS*; Footprint: Converter_DCDC:Converter_DCDC_XP_POWER-IHxxxxS_THT; Datasheet: https://www.xppower.com/pdfs/SF_IH.pdf
pins: 1 +Vin, 2 -Vin, 4 -Vout, 5 0V, 6 +Vout

## IH0503SH
designator *  value IH0503SH  Reference: PS
ki_keywords: XP_POWER DC/DC isolated Converter module; ki_description: XP Power 2W, 3000-6000 VDC Isolated DC/DC Converter Module, Dual Output Voltage ±3.3V, ±200mA, 5V Input Voltage, SIP; ki_fp_filters: *XP?POWER?IHxxxxSH*; Footprint: Converter_DCDC:Converter_DCDC_XP_POWER-IHxxxxSH_THT; Datasheet: https://www.xppower.com/pdfs/SF_IH.pdf
pins: 1 +Vin, 2 -Vin, 4 -Vout, 5 0V, 6 +Vout

## IH0505D
designator *  value IH0505D  Reference: PS
ki_keywords: XP_POWER DC/DC isolated Converter module; ki_description: XP Power 2W, 1000 VDC Isolated DC/DC Converter Module, Dual Output Voltage ±5V, ±200mA, 5V Input Voltage, DIP; ki_fp_filters: *XP?POWER?IHxxxxD*; Footprint: Converter_DCDC:Converter_DCDC_XP_POWER-IHxxxxD_THT; Datasheet: https://www.xppower.com/pdfs/SF_IH.pdf
pins: 1 -Vin, 2 NC hidden, 3 +Vin, 4 -Vout, 5 +Vout, 6 0V

## IH0505DH
designator *  value IH0505DH  Reference: PS
ki_keywords: XP_POWER DC/DC isolated Converter module; ki_description: XP Power 2W, 3000-6000 VDC Isolated DC/DC Converter Module, Dual Output Voltage ±5V, ±200mA, 5V Input Voltage, DIP; ki_fp_filters: *XP?POWER?IHxxxxDH*; Footprint: Converter_DCDC:Converter_DCDC_XP_POWER-IHxxxxDH_THT; Datasheet: https://www.xppower.com/pdfs/SF_IH.pdf
pins: 1 -Vin, 2 NC hidden, 3 +Vin, 4 -Vout, 5 +Vout, 6 0V

## IH0505S
designator *  value IH0505S  Reference: PS
ki_keywords: XP_POWER DC/DC isolated Converter module; ki_description: XP Power 2W, 1000 VDC Isolated DC/DC Converter Module, Dual Output Voltage ±5V, ±200mA, 5V Input Voltage, SIP; ki_fp_filters: *XP?POWER?IHxxxxS*; Footprint: Converter_DCDC:Converter_DCDC_XP_POWER-IHxxxxS_THT; Datasheet: https://www.xppower.com/pdfs/SF_IH.pdf
pins: 1 +Vin, 2 -Vin, 4 -Vout, 5 0V, 6 +Vout

## IH0505SH
designator *  value IH0505SH  Reference: PS
ki_keywords: XP_POWER DC/DC isolated Converter module; ki_description: XP Power 2W, 3000-6000 VDC Isolated DC/DC Converter Module, Dual Output Voltage ±5V, ±200mA, 5V Input Voltage, SIP; ki_fp_filters: *XP?POWER?IHxxxxSH*; Footprint: Converter_DCDC:Converter_DCDC_XP_POWER-IHxxxxSH_THT; Datasheet: https://www.xppower.com/pdfs/SF_IH.pdf
pins: 1 +Vin, 2 -Vin, 4 -Vout, 5 0V, 6 +Vout

## IH0509D
designator *  value IH0509D  Reference: PS
ki_keywords: XP_POWER DC/DC isolated Converter module; ki_description: XP Power 2W, 1000 VDC Isolated DC/DC Converter Module, Dual Output Voltage ±9V, ±111mA, 5V Input Voltage, DIP; ki_fp_filters: *XP?POWER?IHxxxxD*; Footprint: Converter_DCDC:Converter_DCDC_XP_POWER-IHxxxxD_THT; Datasheet: https://www.xppower.com/pdfs/SF_IH.pdf
pins: 1 -Vin, 2 NC hidden, 3 +Vin, 4 -Vout, 5 +Vout, 6 0V

## IH0509DH
designator *  value IH0509DH  Reference: PS
ki_keywords: XP_POWER DC/DC isolated Converter module; ki_description: XP Power 2W, 3000-6000 VDC Isolated DC/DC Converter Module, Dual Output Voltage ±9V, ±111mA, 5V Input Voltage, DIP; ki_fp_filters: *XP?POWER?IHxxxxDH*; Footprint: Converter_DCDC:Converter_DCDC_XP_POWER-IHxxxxDH_THT; Datasheet: https://www.xppower.com/pdfs/SF_IH.pdf
pins: 1 -Vin, 2 NC hidden, 3 +Vin, 4 -Vout, 5 +Vout, 6 0V

## IH0509S
designator *  value IH0509S  Reference: PS
ki_keywords: XP_POWER DC/DC isolated Converter module; ki_description: XP Power 2W, 1000 VDC Isolated DC/DC Converter Module, Dual Output Voltage ±9V, ±111mA, 5V Input Voltage, SIP; ki_fp_filters: *XP?POWER?IHxxxxS*; Footprint: Converter_DCDC:Converter_DCDC_XP_POWER-IHxxxxS_THT; Datasheet: https://www.xppower.com/pdfs/SF_IH.pdf
pins: 1 +Vin, 2 -Vin, 4 -Vout, 5 0V, 6 +Vout

## IH0509SH
designator *  value IH0509SH  Reference: PS
ki_keywords: XP_POWER DC/DC isolated Converter module; ki_description: XP Power 2W, 3000-6000 VDC Isolated DC/DC Converter Module, Dual Output Voltage ±9V, ±111mA, 5V Input Voltage, SIP; ki_fp_filters: *XP?POWER?IHxxxxSH*; Footprint: Converter_DCDC:Converter_DCDC_XP_POWER-IHxxxxSH_THT; Datasheet: https://www.xppower.com/pdfs/SF_IH.pdf
pins: 1 +Vin, 2 -Vin, 4 -Vout, 5 0V, 6 +Vout

## IH0512D
designator *  value IH0512D  Reference: PS
ki_keywords: XP_POWER DC/DC isolated Converter module; ki_description: XP Power 2W, 1000 VDC Isolated DC/DC Converter Module, Dual Output Voltage ±12V, ±84mA, 5V Input Voltage, DIP; ki_fp_filters: *XP?POWER?IHxxxxD*; Footprint: Converter_DCDC:Converter_DCDC_XP_POWER-IHxxxxD_THT; Datasheet: https://www.xppower.com/pdfs/SF_IH.pdf
pins: 1 -Vin, 2 NC hidden, 3 +Vin, 4 -Vout, 5 +Vout, 6 0V

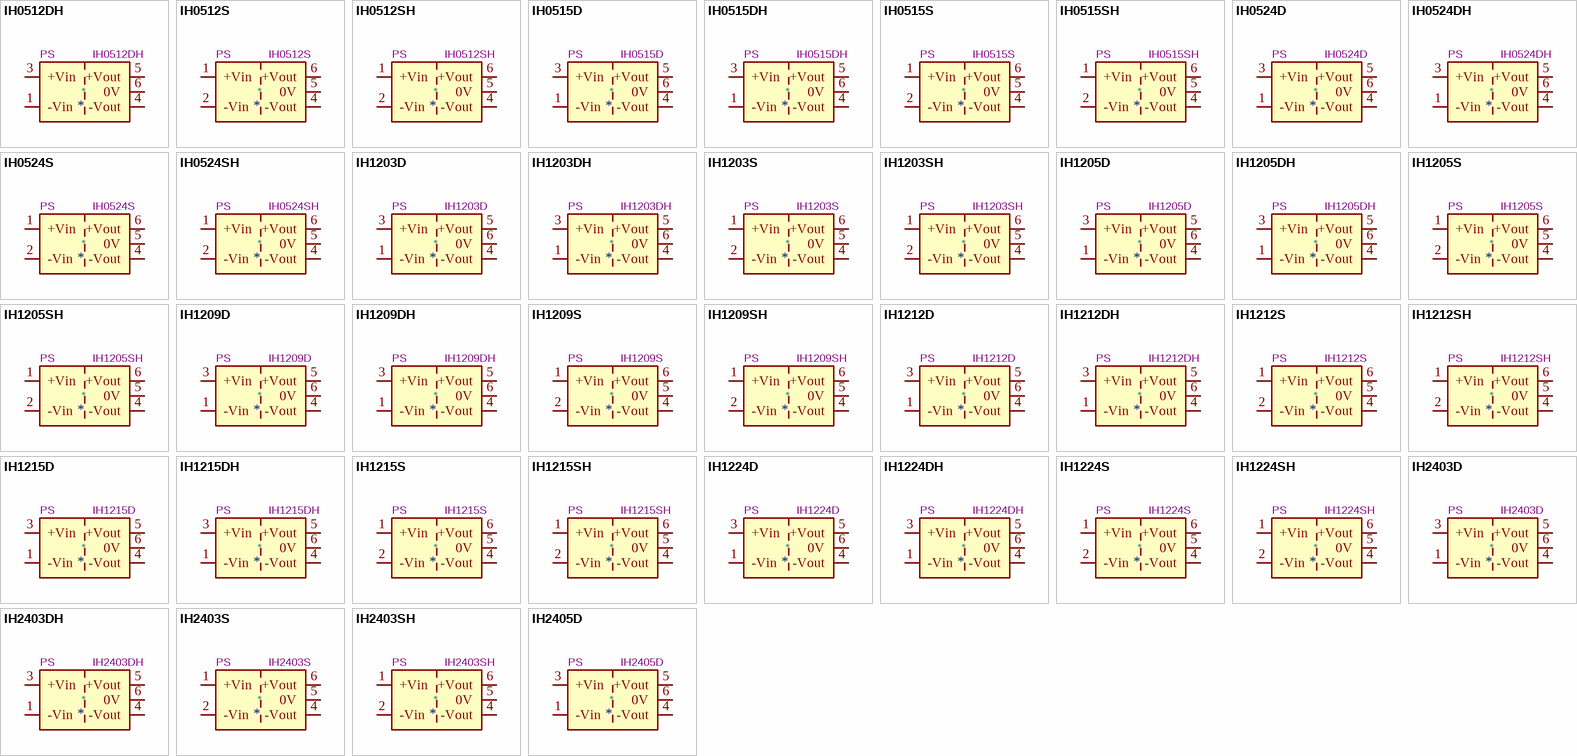
[diagram p2: symbols IH0512DH to IH2405D]

## IH0512DH
designator *  value IH0512DH  Reference: PS
ki_keywords: XP_POWER DC/DC isolated Converter module; ki_description: XP Power 2W, 3000-6000 VDC Isolated DC/DC Converter Module, Dual Output Voltage ±12V, ±84mA, 5V Input Voltage, DIP; ki_fp_filters: *XP?POWER?IHxxxxDH*; Footprint: Converter_DCDC:Converter_DCDC_XP_POWER-IHxxxxDH_THT; Datasheet: https://www.xppower.com/pdfs/SF_IH.pdf
pins: 1 -Vin, 2 NC hidden, 3 +Vin, 4 -Vout, 5 +Vout, 6 0V

## IH0512S
designator *  value IH0512S  Reference: PS
ki_keywords: XP_POWER DC/DC isolated Converter module; ki_description: XP Power 2W, 1000 VDC Isolated DC/DC Converter Module, Dual Output Voltage ±12V, ±84mA, 5V Input Voltage, SIP; ki_fp_filters: *XP?POWER?IHxxxxS*; Footprint: Converter_DCDC:Converter_DCDC_XP_POWER-IHxxxxS_THT; Datasheet: https://www.xppower.com/pdfs/SF_IH.pdf
pins: 1 +Vin, 2 -Vin, 4 -Vout, 5 0V, 6 +Vout

## IH0512SH
designator *  value IH0512SH  Reference: PS
ki_keywords: XP_POWER DC/DC isolated Converter module; ki_description: XP Power 2W, 3000-6000 VDC Isolated DC/DC Converter Module, Dual Output Voltage ±12V, ±84mA, 5V Input Voltage, SIP; ki_fp_filters: *XP?POWER?IHxxxxSH*; Footprint: Converter_DCDC:Converter_DCDC_XP_POWER-IHxxxxSH_THT; Datasheet: https://www.xppower.com/pdfs/SF_IH.pdf
pins: 1 +Vin, 2 -Vin, 4 -Vout, 5 0V, 6 +Vout

## IH0515D
designator *  value IH0515D  Reference: PS
ki_keywords: XP_POWER DC/DC isolated Converter module; ki_description: XP Power 2W, 1000 VDC Isolated DC/DC Converter Module, Dual Output Voltage ±15V, ±66mA, 5V Input Voltage, DIP; ki_fp_filters: *XP?POWER?IHxxxxD*; Footprint: Converter_DCDC:Converter_DCDC_XP_POWER-IHxxxxD_THT; Datasheet: https://www.xppower.com/pdfs/SF_IH.pdf
pins: 1 -Vin, 2 NC hidden, 3 +Vin, 4 -Vout, 5 +Vout, 6 0V

## IH0515DH
designator *  value IH0515DH  Reference: PS
ki_keywords: XP_POWER DC/DC isolated Converter module; ki_description: XP Power 2W, 3000-6000 VDC Isolated DC/DC Converter Module, Dual Output Voltage ±15V, ±66mA, 5V Input Voltage, DIP; ki_fp_filters: *XP?POWER?IHxxxxDH*; Footprint: Converter_DCDC:Converter_DCDC_XP_POWER-IHxxxxDH_THT; Datasheet: https://www.xppower.com/pdfs/SF_IH.pdf
pins: 1 -Vin, 2 NC hidden, 3 +Vin, 4 -Vout, 5 +Vout, 6 0V

## IH0515S
designator *  value IH0515S  Reference: PS
ki_keywords: XP_POWER DC/DC isolated Converter module; ki_description: XP Power 2W, 1000 VDC Isolated DC/DC Converter Module, Dual Output Voltage ±15V, ±66mA, 5V Input Voltage, SIP; ki_fp_filters: *XP?POWER?IHxxxxS*; Footprint: Converter_DCDC:Converter_DCDC_XP_POWER-IHxxxxS_THT; Datasheet: https://www.xppower.com/pdfs/SF_IH.pdf
pins: 1 +Vin, 2 -Vin, 4 -Vout, 5 0V, 6 +Vout

## IH0515SH
designator *  value IH0515SH  Reference: PS
ki_keywords: XP_POWER DC/DC isolated Converter module; ki_description: XP Power 2W, 3000-6000 VDC Isolated DC/DC Converter Module, Dual Output Voltage ±15V, ±66mA, 5V Input Voltage, SIP; ki_fp_filters: *XP?POWER?IHxxxxSH*; Footprint: Converter_DCDC:Converter_DCDC_XP_POWER-IHxxxxSH_THT; Datasheet: https://www.xppower.com/pdfs/SF_IH.pdf
pins: 1 +Vin, 2 -Vin, 4 -Vout, 5 0V, 6 +Vout

## IH0524D
designator *  value IH0524D  Reference: PS
ki_keywords: XP_POWER DC/DC isolated Converter module; ki_description: XP Power 2W, 1000 VDC Isolated DC/DC Converter Module, Dual Output Voltage ±24V, ±42mA, 5V Input Voltage, DIP; ki_fp_filters: *XP?POWER?IHxxxxD*; Footprint: Converter_DCDC:Converter_DCDC_XP_POWER-IHxxxxD_THT; Datasheet: https://www.xppower.com/pdfs/SF_IH.pdf
pins: 1 -Vin, 2 NC hidden, 3 +Vin, 4 -Vout, 5 +Vout, 6 0V

## IH0524DH
designator *  value IH0524DH  Reference: PS
ki_keywords: XP_POWER DC/DC isolated Converter module; ki_description: XP Power 2W, 3000-6000 VDC Isolated DC/DC Converter Module, Dual Output Voltage ±24V, ±42mA, 5V Input Voltage, DIP; ki_fp_filters: *XP?POWER?IHxxxxDH*; Footprint: Converter_DCDC:Converter_DCDC_XP_POWER-IHxxxxDH_THT; Datasheet: https://www.xppower.com/pdfs/SF_IH.pdf
pins: 1 -Vin, 2 NC hidden, 3 +Vin, 4 -Vout, 5 +Vout, 6 0V

## IH0524S
designator *  value IH0524S  Reference: PS
ki_keywords: XP_POWER DC/DC isolated Converter module; ki_description: XP Power 2W, 1000 VDC Isolated DC/DC Converter Module, Dual Output Voltage ±24V, ±42mA, 5V Input Voltage, SIP; ki_fp_filters: *XP?POWER?IHxxxxS*; Footprint: Converter_DCDC:Converter_DCDC_XP_POWER-IHxxxxS_THT; Datasheet: https://www.xppower.com/pdfs/SF_IH.pdf
pins: 1 +Vin, 2 -Vin, 4 -Vout, 5 0V, 6 +Vout

## IH0524SH
designator *  value IH0524SH  Reference: PS
ki_keywords: XP_POWER DC/DC isolated Converter module; ki_description: XP Power 2W, 3000-6000 VDC Isolated DC/DC Converter Module, Dual Output Voltage ±24V, ±42mA, 5V Input Voltage, SIP; ki_fp_filters: *XP?POWER?IHxxxxSH*; Footprint: Converter_DCDC:Converter_DCDC_XP_POWER-IHxxxxSH_THT; Datasheet: https://www.xppower.com/pdfs/SF_IH.pdf
pins: 1 +Vin, 2 -Vin, 4 -Vout, 5 0V, 6 +Vout

## IH1203D
designator *  value IH1203D  Reference: PS
ki_keywords: XP_POWER DC/DC isolated Converter module; ki_description: XP Power 2W, 1000 VDC Isolated DC/DC Converter Module, Dual Output Voltage ±3.3V, ±200mA, 12V Input Voltage, DIP; ki_fp_filters: *XP?POWER?IHxxxxD*; Footprint: Converter_DCDC:Converter_DCDC_XP_POWER-IHxxxxD_THT; Datasheet: https://www.xppower.com/pdfs/SF_IH.pdf
pins: 1 -Vin, 2 NC hidden, 3 +Vin, 4 -Vout, 5 +Vout, 6 0V

## IH1203DH
designator *  value IH1203DH  Reference: PS
ki_keywords: XP_POWER DC/DC isolated Converter module; ki_description: XP Power 2W, 3000-6000 VDC Isolated DC/DC Converter Module, Dual Output Voltage ±3.3V, ±200mA, 12V Input Voltage, DIP; ki_fp_filters: *XP?POWER?IHxxxxDH*; Footprint: Converter_DCDC:Converter_DCDC_XP_POWER-IHxxxxDH_THT; Datasheet: https://www.xppower.com/pdfs/SF_IH.pdf
pins: 1 -Vin, 2 NC hidden, 3 +Vin, 4 -Vout, 5 +Vout, 6 0V

## IH1203S
designator *  value IH1203S  Reference: PS
ki_keywords: XP_POWER DC/DC isolated Converter module; ki_description: XP Power 2W, 1000 VDC Isolated DC/DC Converter Module, Dual Output Voltage ±3.3V, ±200mA, 12V Input Voltage, SIP; ki_fp_filters: *XP?POWER?IHxxxxS*; Footprint: Converter_DCDC:Converter_DCDC_XP_POWER-IHxxxxS_THT; Datasheet: https://www.xppower.com/pdfs/SF_IH.pdf
pins: 1 +Vin, 2 -Vin, 4 -Vout, 5 0V, 6 +Vout

## IH1203SH
designator *  value IH1203SH  Reference: PS
ki_keywords: XP_POWER DC/DC isolated Converter module; ki_description: XP Power 2W, 3000-6000 VDC Isolated DC/DC Converter Module, Dual Output Voltage ±3.3V, ±200mA, 12V Input Voltage, SIP; ki_fp_filters: *XP?POWER?IHxxxxSH*; Footprint: Converter_DCDC:Converter_DCDC_XP_POWER-IHxxxxSH_THT; Datasheet: https://www.xppower.com/pdfs/SF_IH.pdf
pins: 1 +Vin, 2 -Vin, 4 -Vout, 5 0V, 6 +Vout

## IH1205D
designator *  value IH1205D  Reference: PS
ki_keywords: XP_POWER DC/DC isolated Converter module; ki_description: XP Power 2W, 1000 VDC Isolated DC/DC Converter Module, Dual Output Voltage ±5V, ±200mA, 12V Input Voltage, DIP; ki_fp_filters: *XP?POWER?IHxxxxD*; Footprint: Converter_DCDC:Converter_DCDC_XP_POWER-IHxxxxD_THT; Datasheet: https://www.xppower.com/pdfs/SF_IH.pdf
pins: 1 -Vin, 2 NC hidden, 3 +Vin, 4 -Vout, 5 +Vout, 6 0V

## IH1205DH
designator *  value IH1205DH  Reference: PS
ki_keywords: XP_POWER DC/DC isolated Converter module; ki_description: XP Power 2W, 3000-6000 VDC Isolated DC/DC Converter Module, Dual Output Voltage ±5V, ±200mA, 12V Input Voltage, DIP; ki_fp_filters: *XP?POWER?IHxxxxDH*; Footprint: Converter_DCDC:Converter_DCDC_XP_POWER-IHxxxxDH_THT; Datasheet: https://www.xppower.com/pdfs/SF_IH.pdf
pins: 1 -Vin, 2 NC hidden, 3 +Vin, 4 -Vout, 5 +Vout, 6 0V

## IH1205S
designator *  value IH1205S  Reference: PS
ki_keywords: XP_POWER DC/DC isolated Converter module; ki_description: XP Power 2W, 1000 VDC Isolated DC/DC Converter Module, Dual Output Voltage ±5V, ±200mA, 12V Input Voltage, SIP; ki_fp_filters: *XP?POWER?IHxxxxS*; Footprint: Converter_DCDC:Converter_DCDC_XP_POWER-IHxxxxS_THT; Datasheet: https://www.xppower.com/pdfs/SF_IH.pdf
pins: 1 +Vin, 2 -Vin, 4 -Vout, 5 0V, 6 +Vout

## IH1205SH
designator *  value IH1205SH  Reference: PS
ki_keywords: XP_POWER DC/DC isolated Converter module; ki_description: XP Power 2W, 3000-6000 VDC Isolated DC/DC Converter Module, Dual Output Voltage ±5V, ±200mA, 12V Input Voltage, SIP; ki_fp_filters: *XP?POWER?IHxxxxSH*; Footprint: Converter_DCDC:Converter_DCDC_XP_POWER-IHxxxxSH_THT; Datasheet: https://www.xppower.com/pdfs/SF_IH.pdf
pins: 1 +Vin, 2 -Vin, 4 -Vout, 5 0V, 6 +Vout

## IH1209D
designator *  value IH1209D  Reference: PS
ki_keywords: XP_POWER DC/DC isolated Converter module; ki_description: XP Power 2W, 1000 VDC Isolated DC/DC Converter Module, Dual Output Voltage ±9V, ±111mA, 12V Input Voltage, DIP; ki_fp_filters: *XP?POWER?IHxxxxD*; Footprint: Converter_DCDC:Converter_DCDC_XP_POWER-IHxxxxD_THT; Datasheet: https://www.xppower.com/pdfs/SF_IH.pdf
pins: 1 -Vin, 2 NC hidden, 3 +Vin, 4 -Vout, 5 +Vout, 6 0V

## IH1209DH
designator *  value IH1209DH  Reference: PS
ki_keywords: XP_POWER DC/DC isolated Converter module; ki_description: XP Power 2W, 3000-6000 VDC Isolated DC/DC Converter Module, Dual Output Voltage ±9V, ±111mA, 12V Input Voltage, DIP; ki_fp_filters: *XP?POWER?IHxxxxDH*; Footprint: Converter_DCDC:Converter_DCDC_XP_POWER-IHxxxxDH_THT; Datasheet: https://www.xppower.com/pdfs/SF_IH.pdf
pins: 1 -Vin, 2 NC hidden, 3 +Vin, 4 -Vout, 5 +Vout, 6 0V

## IH1209S
designator *  value IH1209S  Reference: PS
ki_keywords: XP_POWER DC/DC isolated Converter module; ki_description: XP Power 2W, 1000 VDC Isolated DC/DC Converter Module, Dual Output Voltage ±9V, ±111mA, 12V Input Voltage, SIP; ki_fp_filters: *XP?POWER?IHxxxxS*; Footprint: Converter_DCDC:Converter_DCDC_XP_POWER-IHxxxxS_THT; Datasheet: https://www.xppower.com/pdfs/SF_IH.pdf
pins: 1 +Vin, 2 -Vin, 4 -Vout, 5 0V, 6 +Vout

## IH1209SH
designator *  value IH1209SH  Reference: PS
ki_keywords: XP_POWER DC/DC isolated Converter module; ki_description: XP Power 2W, 3000-6000 VDC Isolated DC/DC Converter Module, Dual Output Voltage ±9V, ±111mA, 12V Input Voltage, SIP; ki_fp_filters: *XP?POWER?IHxxxxSH*; Footprint: Converter_DCDC:Converter_DCDC_XP_POWER-IHxxxxSH_THT; Datasheet: https://www.xppower.com/pdfs/SF_IH.pdf
pins: 1 +Vin, 2 -Vin, 4 -Vout, 5 0V, 6 +Vout

## IH1212D
designator *  value IH1212D  Reference: PS
ki_keywords: XP_POWER DC/DC isolated Converter module; ki_description: XP Power 2W, 1000 VDC Isolated DC/DC Converter Module, Dual Output Voltage ±12V, ±84mA, 12V Input Voltage, DIP; ki_fp_filters: *XP?POWER?IHxxxxD*; Footprint: Converter_DCDC:Converter_DCDC_XP_POWER-IHxxxxD_THT; Datasheet: https://www.xppower.com/pdfs/SF_IH.pdf
pins: 1 -Vin, 2 NC hidden, 3 +Vin, 4 -Vout, 5 +Vout, 6 0V

## IH1212DH
designator *  value IH1212DH  Reference: PS
ki_keywords: XP_POWER DC/DC isolated Converter module; ki_description: XP Power 2W, 3000-6000 VDC Isolated DC/DC Converter Module, Dual Output Voltage ±12V, ±84mA, 12V Input Voltage, DIP; ki_fp_filters: *XP?POWER?IHxxxxDH*; Footprint: Converter_DCDC:Converter_DCDC_XP_POWER-IHxxxxDH_THT; Datasheet: https://www.xppower.com/pdfs/SF_IH.pdf
pins: 1 -Vin, 2 NC hidden, 3 +Vin, 4 -Vout, 5 +Vout, 6 0V

## IH1212S
designator *  value IH1212S  Reference: PS
ki_keywords: XP_POWER DC/DC isolated Converter module; ki_description: XP Power 2W, 1000 VDC Isolated DC/DC Converter Module, Dual Output Voltage ±12V, ±84mA, 12V Input Voltage, SIP; ki_fp_filters: *XP?POWER?IHxxxxS*; Footprint: Converter_DCDC:Converter_DCDC_XP_POWER-IHxxxxS_THT; Datasheet: https://www.xppower.com/pdfs/SF_IH.pdf
pins: 1 +Vin, 2 -Vin, 4 -Vout, 5 0V, 6 +Vout

## IH1212SH
designator *  value IH1212SH  Reference: PS
ki_keywords: XP_POWER DC/DC isolated Converter module; ki_description: XP Power 2W, 3000-6000 VDC Isolated DC/DC Converter Module, Dual Output Voltage ±12V, ±84mA, 12V Input Voltage, SIP; ki_fp_filters: *XP?POWER?IHxxxxSH*; Footprint: Converter_DCDC:Converter_DCDC_XP_POWER-IHxxxxSH_THT; Datasheet: https://www.xppower.com/pdfs/SF_IH.pdf
pins: 1 +Vin, 2 -Vin, 4 -Vout, 5 0V, 6 +Vout

## IH1215D
designator *  value IH1215D  Reference: PS
ki_keywords: XP_POWER DC/DC isolated Converter module; ki_description: XP Power 2W, 1000 VDC Isolated DC/DC Converter Module, Dual Output Voltage ±15V, ±66mA, 12V Input Voltage, DIP; ki_fp_filters: *XP?POWER?IHxxxxD*; Footprint: Converter_DCDC:Converter_DCDC_XP_POWER-IHxxxxD_THT; Datasheet: https://www.xppower.com/pdfs/SF_IH.pdf
pins: 1 -Vin, 2 NC hidden, 3 +Vin, 4 -Vout, 5 +Vout, 6 0V

## IH1215DH
designator *  value IH1215DH  Reference: PS
ki_keywords: XP_POWER DC/DC isolated Converter module; ki_description: XP Power 2W, 3000-6000 VDC Isolated DC/DC Converter Module, Dual Output Voltage ±15V, ±66mA, 12V Input Voltage, DIP; ki_fp_filters: *XP?POWER?IHxxxxDH*; Footprint: Converter_DCDC:Converter_DCDC_XP_POWER-IHxxxxDH_THT; Datasheet: https://www.xppower.com/pdfs/SF_IH.pdf
pins: 1 -Vin, 2 NC hidden, 3 +Vin, 4 -Vout, 5 +Vout, 6 0V

## IH1215S
designator *  value IH1215S  Reference: PS
ki_keywords: XP_POWER DC/DC isolated Converter module; ki_description: XP Power 2W, 1000 VDC Isolated DC/DC Converter Module, Dual Output Voltage ±15V, ±66mA, 12V Input Voltage, SIP; ki_fp_filters: *XP?POWER?IHxxxxS*; Footprint: Converter_DCDC:Converter_DCDC_XP_POWER-IHxxxxS_THT; Datasheet: https://www.xppower.com/pdfs/SF_IH.pdf
pins: 1 +Vin, 2 -Vin, 4 -Vout, 5 0V, 6 +Vout

## IH1215SH
designator *  value IH1215SH  Reference: PS
ki_keywords: XP_POWER DC/DC isolated Converter module; ki_description: XP Power 2W, 3000-6000 VDC Isolated DC/DC Converter Module, Dual Output Voltage ±15V, ±66mA, 12V Input Voltage, SIP; ki_fp_filters: *XP?POWER?IHxxxxSH*; Footprint: Converter_DCDC:Converter_DCDC_XP_POWER-IHxxxxSH_THT; Datasheet: https://www.xppower.com/pdfs/SF_IH.pdf
pins: 1 +Vin, 2 -Vin, 4 -Vout, 5 0V, 6 +Vout

## IH1224D
designator *  value IH1224D  Reference: PS
ki_keywords: XP_POWER DC/DC isolated Converter module; ki_description: XP Power 2W, 1000 VDC Isolated DC/DC Converter Module, Dual Output Voltage ±24V, ±42mA, 12V Input Voltage, DIP; ki_fp_filters: *XP?POWER?IHxxxxD*; Footprint: Converter_DCDC:Converter_DCDC_XP_POWER-IHxxxxD_THT; Datasheet: https://www.xppower.com/pdfs/SF_IH.pdf
pins: 1 -Vin, 2 NC hidden, 3 +Vin, 4 -Vout, 5 +Vout, 6 0V